# Altium schematic symbol library Boards.SchLib: 1 symbol
Pins are listed as number, name and electrical type; pins without a type are passive.

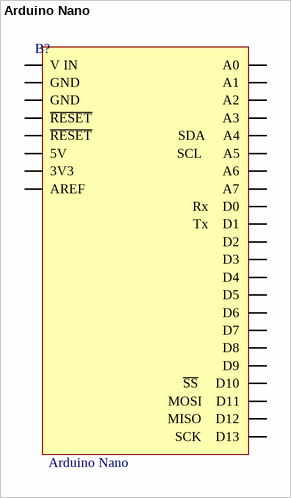
[diagram p0: symbol Arduino Nano]

## Arduino Nano
designator B?  (value not drawn)
footprint Arduino Nano v3
pins: 3V3, 5V, A0, A1, A2, A3, A4 SDA     A4, A5 SCL      A5, A6, A7, Aref AREF, D0 Rx    D0, D1 Tx    D1, D2, D3, D4, D5, D6, D7, D8, D9, D10 ~{SS}     D10, D11 MOSI    D11, D12 MISO    D12, D13 SCK    D13, Gnd1 GND, Gnd2 GND, Rst1 ~{RESET}, Rst2 ~{RESET}, Vin V IN (power)